# Altium schematic symbol library 24CW1280T-I_OT.SchLib: 1 symbol
Pins are listed as number, name and electrical type; pins without a type are passive.

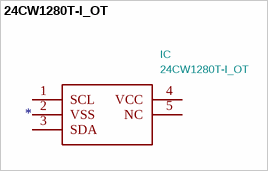
[diagram p0: symbol 24CW1280T-I_OT]

## 24CW1280T-I_OT
designator IC  value 24CW1280T-I_OT
MICROCHIP - 24CW1280T-I/OT - EEPROM, 128KBIT, -40 TO 85DEG C; Footprint: SOT95P280X145-5N; Supplier: http://ww1.microchip.com/downloads/en/DeviceDoc/24CW16X-24CW32X-24CW64X-24CW128X-Data-Sheet-20005772B.pdf; Description_: MICROCHIP - 24CW1280T-I/OT - EEPROM, 128KBIT, -40 TO 85DEG C; Height: 1.45; Manufacturer_Name: Microchip; Manufacturer_Part_Number: 24CW1280T-I/OT; Mouser Part Number: 579-24CW1280T-I/OT; Mouser Price/Stock: https://www.mouser.com/Search/Refine.aspx?Keyword=579-24CW1280T-I%2FOT; RS Part Number: 1871851; RS Price/Stock: http://uk.rs-online.com/web/p/products/1871851
footprint SOT95P280X145-5N
pins: 1 SCL, 2 VSS, 3 SDA, 4 VCC, 5 NC